# Altium schematic symbol library MCU_Texas_SimpleLink.SchLib: 1 symbol
Pins are listed as number, name and electrical type; pins without a type are passive.

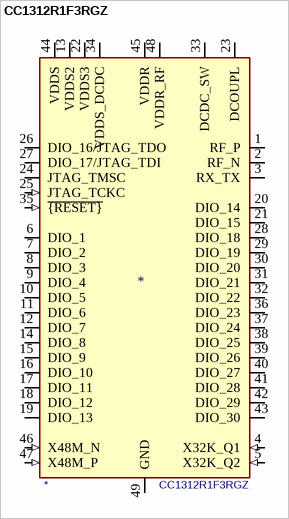
[diagram p0: symbol CC1312R1F3RGZ]

## CC1312R1F3RGZ
designator *  value CC1312R1F3RGZ
ki_keywords: 32-bit ARM Cortex-M4 MCU Microcontroller; ki_description: ARM Cortex-M4 SimpleLink High-Performance Sub-1GHz Wireless MCU, 48MHz, 352KB Flash, 80KB SRAM, 8KB Cache SRAM, 1.8-3.6V, 30 GPIO, VQFN-48; ki_fp_filters: VQFN*1EP*7x7mm*P0.5mm*; Footprint: Package_DFN_QFN:VQFN-48-1EP_7x7mm_P0.5mm_EP5.15x5.15mm; Supplier: http://www.ti.com/lit/ds/symlink/cc1312r.pdf
footprint VQFN-48-1EP_7x7mm_P0.5mm_EP5.15x5.15mm
pins: 1 RF_P, 2 RF_N, 3 RX_TX, 4 X32K_Q1 (in), 5 X32K_Q2 (in), 6 DIO_1 (io), 7 DIO_2 (io), 8 DIO_3 (io), 9 DIO_4 (io), 10 DIO_5 (io), 11 DIO_6 (io), 12 DIO_7 (io), 13 VDDS2 (power), 14 DIO_8 (io), 15 DIO_9 (io), 16 DIO_10 (io), 17 DIO_11 (io), 18 DIO_12 (io), 19 DIO_13 (io), 20 DIO_14 (io), 21 DIO_15 (io), 22 VDDS3 (power), 23 DCOUPL (power), 24 JTAG_TMSC (io), 25 JTAG_TCKC (in), 26 DIO_16/JTAG_TDO (io), 27 DIO_17/JTAG_TDI (io), 28 DIO_18 (io), 29 DIO_19 (io), 30 DIO_20 (io), 31 DIO_21 (io), 32 DIO_22 (io), 33 DCDC_SW (power), 34 VDDS_DCDC (power), 35 ~{{RESET}} (in), 36 DIO_23 (io), 37 DIO_24 (io), 38 DIO_25 (io), 39 DIO_26 (io), 40 DIO_27 (io), 41 DIO_28 (io), 42 DIO_29 (io), 43 DIO_30 (io), 44 VDDS (power), 45 VDDR (power), 46 X48M_N (in), 47 X48M_P (in), 48 VDDR_RF (power), 49 GND (power)